# Altium schematic symbol library ZOE-M8G.SchLib: 1 symbol
Pins are listed as number, name and electrical type; pins without a type are passive.

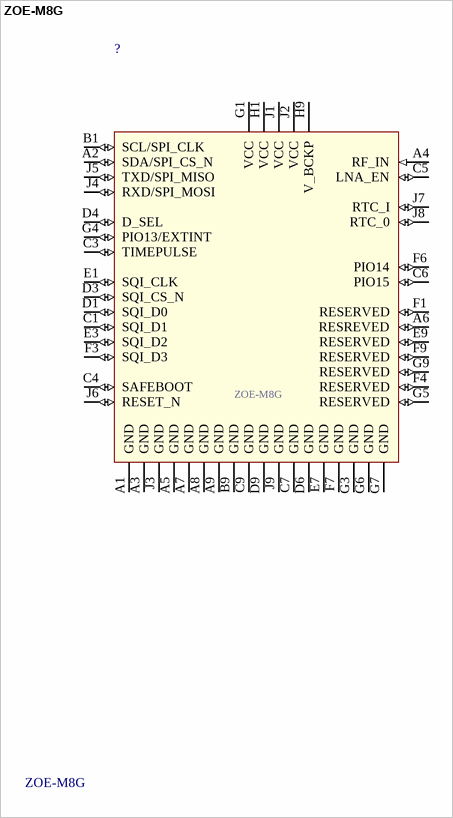
[diagram p0: symbol ZOE-M8G]

## ZOE-M8G
designator ?
M8 Concurrent Gnss Module; MF: u-blox; Package: SMD-51 u-blox; Price: None; MP: ZOE-M8G; Availability: Unavailable; SnapEDA_Link: https://www.snapeda.com/parts/ZOE-M8G/u-blox/view-part/?ref=snap; Value: *
footprint ZOE-M8_ZOE-M8G(Primary)
pins: A1 GND (power), A2 SDA/SPI_CS_N (io), A3 GND (power), A4 RF_IN (in), A5 GND (power), A6 RESREVED (io), A7 GND (power), A8 GND (power), A9 GND (power), B1 SCL/SPI_CLK (io), B9 GND (power), C1 SQI_D1 (io), C3 TIMEPULSE (io), C4 SAFEBOOT (io), C5 LNA_EN (io), C6 PIO15 (io), C7 GND (power), C9 GND (power), D1 SQI_D0 (io), D3 SQI_CS_N (io), D4 D_SEL (io), D6 GND (power), D9 GND (power), E1 SQI_CLK (io), E3 SQI_D2 (io), E7 GND (power), E9 RESERVED (io), F1 RESERVED (io), F3 SQI_D3 (io), F4 RESERVED (io), F6 PIO14 (io), F7 GND (power), F9 RESERVED (io), G1 VCC (power), G3 GND (power), G4 PIO13/EXTINT (io), G5 RESERVED (io), G6 GND (power), G7 GND (power), G9 RESERVED (io), H1 VCC (power), H9 V_BCKP (power), J1 VCC (power), J2 VCC (power), J3 GND (power), J4 RXD/SPI_MOSI (io), J5 TXD/SPI_MISO (io), J6 RESET_N (io), J7 RTC_I (io), J8 RTC_0 (io), J9 GND (power)